# Altium footprint library passive_component.PcbLib: 20 footprints (part 1 of 2)
Each footprint in its own frame and in the unit in brackets; x right, y up, seen from the top. Pads: shape width x height; smd on the part's side, far side on the other; paste and mask are expansions set on the pad; w line width, h text height; cw(c..) or ccw(c..) is an arc to the next point about the centre after c.
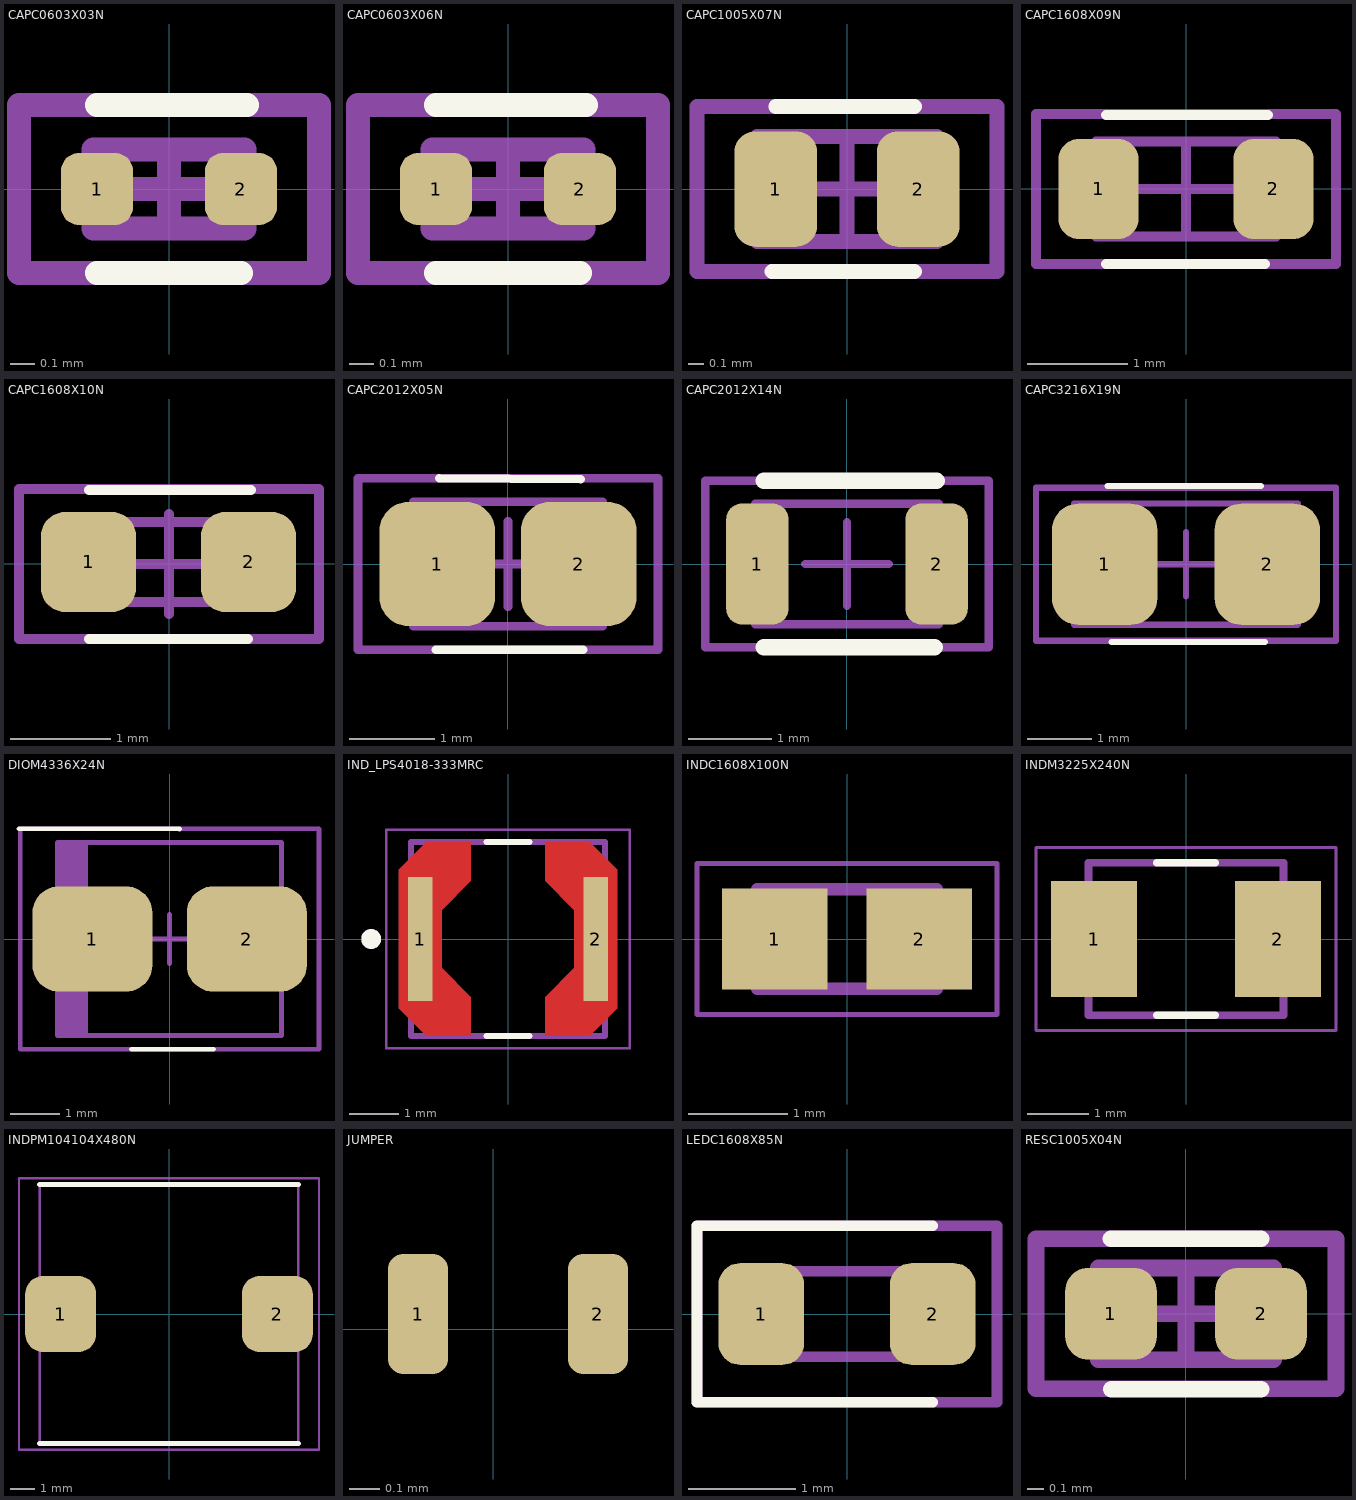
[diagram p0: the footprints below, top view; thin cyan lines are the x and y axes]

## CAPC0603X03N [mm] "Chip Capacitor, 2-Leads, Body 0,60x0,30mm, IPC Medium Density"
height 0.33
pads (2):
  rrect50% 0.3x0.3 smd: 1(-0.3,0) 2(0.3,0)
Top Overlay:
  lines w0.1: -0.3,-0.35 0.3,-0.35 ; -0.3,0.35 0.325,0.35
Mechanical 13:
  lines w0.1: -0.315,-0.165 0.315,-0.165 0.315,0.165 -0.315,0.165 -0.315,-0.165
Mechanical 15:
  lines w0.1: -0.165,0 0.165,0 ; 0,-0.165 0,0.165 ; -0.625,-0.35 0.625,-0.35 0.625,0.35 -0.625,0.35 -0.625,-0.35
Top Designator:
  text ".Designator" at -1.054,-0.087 h0.25
3D body "CAPC0603X03N.step": height 0.33, standoff 0, extent -0.315,-0.165 0.315,0.165

## CAPC0603X06N [mm] "Chip Capacitor, 2-Leads, Body 0,60x0,30mm, IPC Medium Density"
height 0.55
pads (2):
  rrect50% 0.3x0.3 smd: 1(-0.3,0) 2(0.3,0)
Top Overlay:
  lines w0.1: -0.3,-0.35 0.3,-0.35 ; -0.3,0.35 0.325,0.35
Mechanical 13:
  lines w0.1: -0.315,-0.165 0.315,-0.165 0.315,0.165 -0.315,0.165 -0.315,-0.165
Mechanical 15:
  lines w0.1: -0.165,0 0.165,0 ; 0,-0.165 0,0.165 ; -0.625,-0.35 0.625,-0.35 0.625,0.35 -0.625,0.35 -0.625,-0.35
Top Designator:
  text ".Designator" at -1.054,-0.087 h0.25
3D body "CAPC0603X06N.step": height 0.55, standoff 0, extent -0.37,-0.165 0.32,0.225

## CAPC1005X07N [mm] "Chip Capacitor, 2-Leads, Body 1,00x0,50mm, IPC Medium Density"
height 0.7
pads (2):
  rrect50% 0.55x0.77 smd: 1(-0.475,0) 2(0.475,0)
Top Overlay:
  lines w0.1: -0.5,-0.55 0.45,-0.55 ; -0.475,0.55 0.45,0.55
Mechanical 13:
  lines w0.1: -0.6,-0.35 0.6,-0.35 0.6,0.35 -0.6,0.35 -0.6,-0.35
Mechanical 15:
  lines w0.1: -0.35,0 0.35,0 ; 0,-0.35 0,0.35 ; -1,-0.55 1,-0.55 1,0.55 -1,0.55 -1,-0.55
Top Designator:
  text ".Designator" at -1.3,-0.058 h0.25
3D body "CAPC1005X07N.step": height 0.7, standoff 0, extent -0.6,-0.35 0.6,0.35

## CAPC1608X09N [mm] "Chip Capacitor, 2-Leads, Body 1,60x0,80mm, IPC Medium Density"
height 0.95
pads (2):
  rrect50% 0.8x1 smd: 1(-0.875,0) 2(0.875,0)
Top Overlay:
  lines w0.1: -0.8,-0.75 0.79,-0.75 ; -0.8,0.74 0.82,0.74
Mechanical 13:
  lines w0.1: -0.9,-0.475 0.9,-0.475 0.9,0.475 -0.9,0.475 -0.9,-0.475
Mechanical 15:
  lines w0.1: -0.475,0 0.475,0 ; 0,-0.475 0,0.475 ; -1.5,-0.75 1.5,-0.75 1.5,0.75 -1.5,0.75 -1.5,-0.75
Top Designator:
  text ".Designator" at -1.3,-0.083 h0.25
3D body "GCJ188R72A104KA01D.stp": height 0.78, standoff -0.02, extent -0.75,-0.45 0.85,0.45

## CAPC1608X10N [mm] "Chip Capacitor, 2-Leads, Body 1,60x0,80mm, IPC Medium Density"
height 0.95
pads (2):
  rrect50% 0.95x1 smd: 1(-0.805,0.02) 2(0.795,0.02)
Top Overlay:
  lines w0.1: -0.8,-0.75 0.79,-0.75 ; -0.8,0.74 0.82,0.74
Mechanical 13:
  lines w0.1: -0.805,-0.38 0.795,-0.38 0.795,0.42 -0.805,0.42 -0.805,-0.38
Mechanical 15:
  lines w0.1: -0.5,0 0.5,0 ; 0,-0.5 0,0.5 ; -1.5,-0.75 1.5,-0.75 1.5,0.75 -1.5,0.75 -1.5,-0.75
Top Designator:
  text ".Designator" at -1.175,-0.058 h0.25
3D body "C0603X473K1RACTU.stp": height 0.87, standoff 0, extent -0.875,-0.46 0.875,0.49

## CAPC2012X05N [mm] "Chip Capacitor, 2-Leads, Body 2,01x1,25mm, IPC Medium Density"
height 0.5
pads (2):
  rrect50% 1.35x1.45 smd: 1(-0.825,0) 2(0.825,0)
Top Overlay:
  lines w0.1: -0.84,-1 0.88,-1 ; -0.8,1 0.85,0.99
Mechanical 13:
  lines w0.1: -1.105,-0.725 1.105,-0.725 1.105,0.725 -1.105,0.725 -1.105,-0.725
Mechanical 15:
  lines w0.1: -0.5,0 0.5,0 ; 0,-0.5 0,0.5 ; -1.75,-1 1.75,-1 1.75,1 -1.75,1 -1.75,-1
Top Designator:
  text ".Designator" at -1.014,-0.092 h0.25
3D body "step_temp.STEP": height 0.94, standoff 0, extent -1.005,-0.625 1.005,0.625

## CAPC2012X14N [mm] "Chip Capacitor, 2-Leads, Body 2,00x1,25mm, IPC Medium Density"
height 1.45
pads (2):
  rrect50% 0.75x1.45 smd: 1(-1.075,0) 2(1.075,0)
Top Overlay:
  lines w0.2: -1,-1 1.05,-1 ; -1,1 1.075,1
Mechanical 13:
  lines w0.1: -1.1,-0.725 -1.1,0.725 1.1,0.725 1.1,-0.725 -1.1,-0.725
Mechanical 15:
  lines w0.1: -0.5,0 0.5,0 ; 0,-0.5 0,0.5 ; -1.7,-1 1.7,-1 1.7,1 -1.7,1 -1.7,-1
Top Designator:
  text ".Designator" at -1.25,-0.083 h0.25
3D body "CAPC2012X14N.step": height 1.45, standoff 0, extent -1.1,-0.725 1.1,0.725

## CAPC3216X19N [mm] "Chip Capacitor, 2-Leads, Body 3,20x1,60mm, IPC Medium Density"
height 1.9
pads (2):
  rrect50% 1.65x1.9 smd: 1(-1.275,0) 2(1.275,0)
Top Overlay:
  lines w0.1: -1.225,1.225 1.175,1.225 ; -1.167,-1.219 1.233,-1.219
Mechanical 13:
  lines w0.1: -1.75,-0.95 -1.75,0.95 1.75,0.95 1.75,-0.95 -1.75,-0.95
Mechanical 15:
  lines w0.1: -0.5,0 0.5,0 ; 0,-0.5 0,0.5 ; -2.35,-1.2 2.35,-1.2 2.35,1.2 -2.35,1.2 -2.35,-1.2
Top Designator:
  text ".Designator" at -1.25,-0.058 h0.25
3D body "CAPC3216X19N.step": height 1.9, standoff 0, extent -1.75,-0.95 1.75,0.95

## DIOM4336X24N [mm] "Molded Diode, 2-Leads, Body 4,31x3,62mm, IPC Medium Density"
height 2.44
pads (2):
  rrect50% 2.45x2.15 smd: 1(-1.575,0) 2(1.575,0)
Top Overlay:
  lines w0.1: -3.075,2.25 0.202,2.25 ; -0.775,-2.25 0.9,-2.25
Top Courtyard:
  lines w0.1: -0.5,0 0.5,0 ; 0,-0.5 0,0.5 ; -3.05,-2.25 3.05,-2.25 3.05,2.25 -3.05,2.25 -3.05,-2.25
Mechanical 13:
  rectangle: -2.285,-1.97 -1.67,1.97
  lines w0.1: -2.285,-1.97 2.285,-1.97 2.285,1.97 -2.285,1.97 -2.285,-1.97
Top Designator:
  text ".Designator" at -1.225,-0.058 h0.25
3D body "DIOM4336X24N.step": height 2.44, standoff 0, extent -2.605,-2.095 2.405,1.845

## IND_LPS4018-333MRC [mm]
height 1.8
pads (2):
  rect 0.5x2.5 smd paste-2 mask+0: 1(-1.765,0) 2(1.765,0)
Top Layer:
  region: 2.2,1.395 2.2,-1.395 1.64,-1.945 0.75,-1.945 0.75,-1.17 1.33,-0.575 1.33,0.575 0.75,1.17 0.75,1.945 1.64,1.945
  region: -0.75,1.17 -1.33,0.575 -1.33,-0.575 -0.75,-1.17 -0.75,-1.945 -1.64,-1.945 -2.2,-1.395 -2.2,1.395 -1.64,1.945 -0.75,1.945
Top Overlay:
  circle w0.2: c-2.75,0 r0.1
  lines w0.127: -0.43,-1.95 0.43,-1.95 ; -0.43,1.95 0.43,1.95
Top Paste:
  region: 2.2,1.395 2.2,-1.395 1.64,-1.945 0.75,-1.945 0.75,-1.17 1.33,-0.575 1.33,0.575 0.75,1.17 0.75,1.945 1.64,1.945
  region: -0.75,1.17 -1.33,0.575 -1.33,-0.575 -0.75,-1.17 -0.75,-1.945 -1.64,-1.945 -2.2,-1.395 -2.2,1.395 -1.64,1.945 -0.75,1.945
Top Solder:
  region: 2.3,1.437 2.3,-1.437 1.681,-2.045 0.65,-2.045 0.65,-1.129 1.23,-0.534 1.23,0.534 0.65,1.129 0.65,2.045 1.681,2.045
  region: -0.65,1.129 -1.23,0.534 -1.23,-0.534 -0.65,-1.129 -0.65,-2.045 -1.681,-2.045 -2.3,-1.437 -2.3,1.437 -1.681,2.045 -0.65,2.045
Mechanical 13:
  circle w0.2: c-2.75,0 r0.1
  lines w0.127: -1.95,-1.95 -1.95,1.95 1.95,1.95 1.95,-1.95 -1.95,-1.95
Mechanical 15:
  lines w0.05: -2.45,-2.2 -2.45,2.2 2.45,2.2 2.45,-2.2 -2.45,-2.2
3D body "step_temp.STEP": height 1.8, standoff 0, extent -1.95,-1.95 1.95,1.95

## INDC1608X100N [mm]
pads (2):
  rect 1.06x1.02 smd: 1(-0.728,0) 2(0.728,0)
Mechanical 13:
  lines w0.127: -0.9,-0.5 -0.9,0.5 0.9,0.5 0.9,-0.5 -0.9,-0.5
Mechanical 15:
  lines w0.05: -1.508,-0.758 -1.508,0.758 1.508,0.758 1.508,-0.758 -1.508,-0.758

## INDM3225X240N [mm]
height 2.4
pads (2):
  rect 1.41x1.91 smd: 1(-1.505,0) 2(1.505,0)
Top Overlay:
  lines w0.127: -0.48,-1.25 0.48,-1.25 ; -0.48,1.25 0.48,1.25
Mechanical 13:
  lines w0.127: -1.6,-1.25 -1.6,1.25 1.6,1.25 1.6,-1.25 -1.6,-1.25
Mechanical 15:
  lines w0.05: -2.46,-1.5 -2.46,1.5 2.46,1.5 2.46,-1.5 -2.46,-1.5

## INDPM104104X480N [mm]
pads (2):
  rrect50% 2.85x3.05 smd: 1(-4.35,0) 2(4.35,0)
Top Overlay:
  lines w0.2: -5.2,-5.2 5.2,-5.2 ; -5.2,5.2 5.2,5.2
Mechanical 13:
  lines w0.1: -5.2,-5.2 -5.2,5.2 5.2,5.2 5.2,-5.2 -5.2,-5.2
Mechanical 15:
  lines w0.1: -6.025,-5.45 -6.025,5.45 6.025,5.45 6.025,-5.45 -6.025,-5.45
Top Designator:
  text ".Designator" at -1.3,-0.083 h0.25
3D body "B82464P4333M000.stp": height 4.7, standoff 0, extent -5,-5 5,5

## JUMPER [mm]
pads (2):
  rrect50% 0.2x0.4 smd mask+0.05: 1(-0.25,0.05) 2(0.35,0.05)

## LEDC1608X85N [mm]
pads (2):
  rrect50% 0.8x0.95 smd: 1(-0.8,0) 2(0.8,0)
Top Overlay:
  lines w0.1: 0.8,-0.825 -1.4,-0.825 -1.4,0.825 0.8,0.825
Mechanical 13:
  lines w0.1: -0.8,0.133 -0.533,0.4 ; -0.8,-0.4 0.8,-0.4 0.8,0.4 -0.8,0.4 -0.8,-0.4
Mechanical 15:
  lines w0.1: -1.4,-0.825 1.4,-0.825 1.4,0.825 -1.4,0.825 -1.4,-0.825
Top Designator:
  text ".Designator" at -1.004,-0.087 h0.25
3D body "APT1608SURCK.stp": height 0.75, standoff 0, extent -0.84,-0.4 0.771,0.4

## RESC1005X04N [mm] "Chip Resistor, 2-Leads, Body 1,00x0,50mm, IPC Medium Density"
height 0.4
pads (2):
  rrect50% 0.55x0.55 smd: 1(-0.45,0) 2(0.45,0)
Top Overlay:
  lines w0.1: -0.45,0.45 0.45,0.45 ; -0.448,-0.452 0.452,-0.452
Mechanical 13:
  lines w0.1: -0.525,-0.275 -0.525,0.275 0.525,0.275 0.525,-0.275 -0.525,-0.275
Mechanical 15:
  lines w0.1: -0.275,0 0.275,0 ; 0,-0.275 0,0.275 ; -0.9,-0.45 -0.9,0.45 0.9,0.45 0.9,-0.45 -0.9,-0.45
Top Designator:
  text ".Designator" at -1.004,-0.112 h0.25
3D body "RESC1005X04N.step": height 0.4, standoff 0, extent -0.525,-0.275 0.525,0.275